# Altium footprint library (Poly)TC364_MainBoard_PCB_V1.1.PcbLib: 27 footprints (part 2 of 2)
Each footprint in its own frame and in the unit in brackets; x right, y up, seen from the top. Pads: shape width x height; smd on the part's side, far side on the other; paste and mask are expansions set on the pad; w line width, h text height; cw(c..) or ccw(c..) is an arc to the next point about the centre after c.
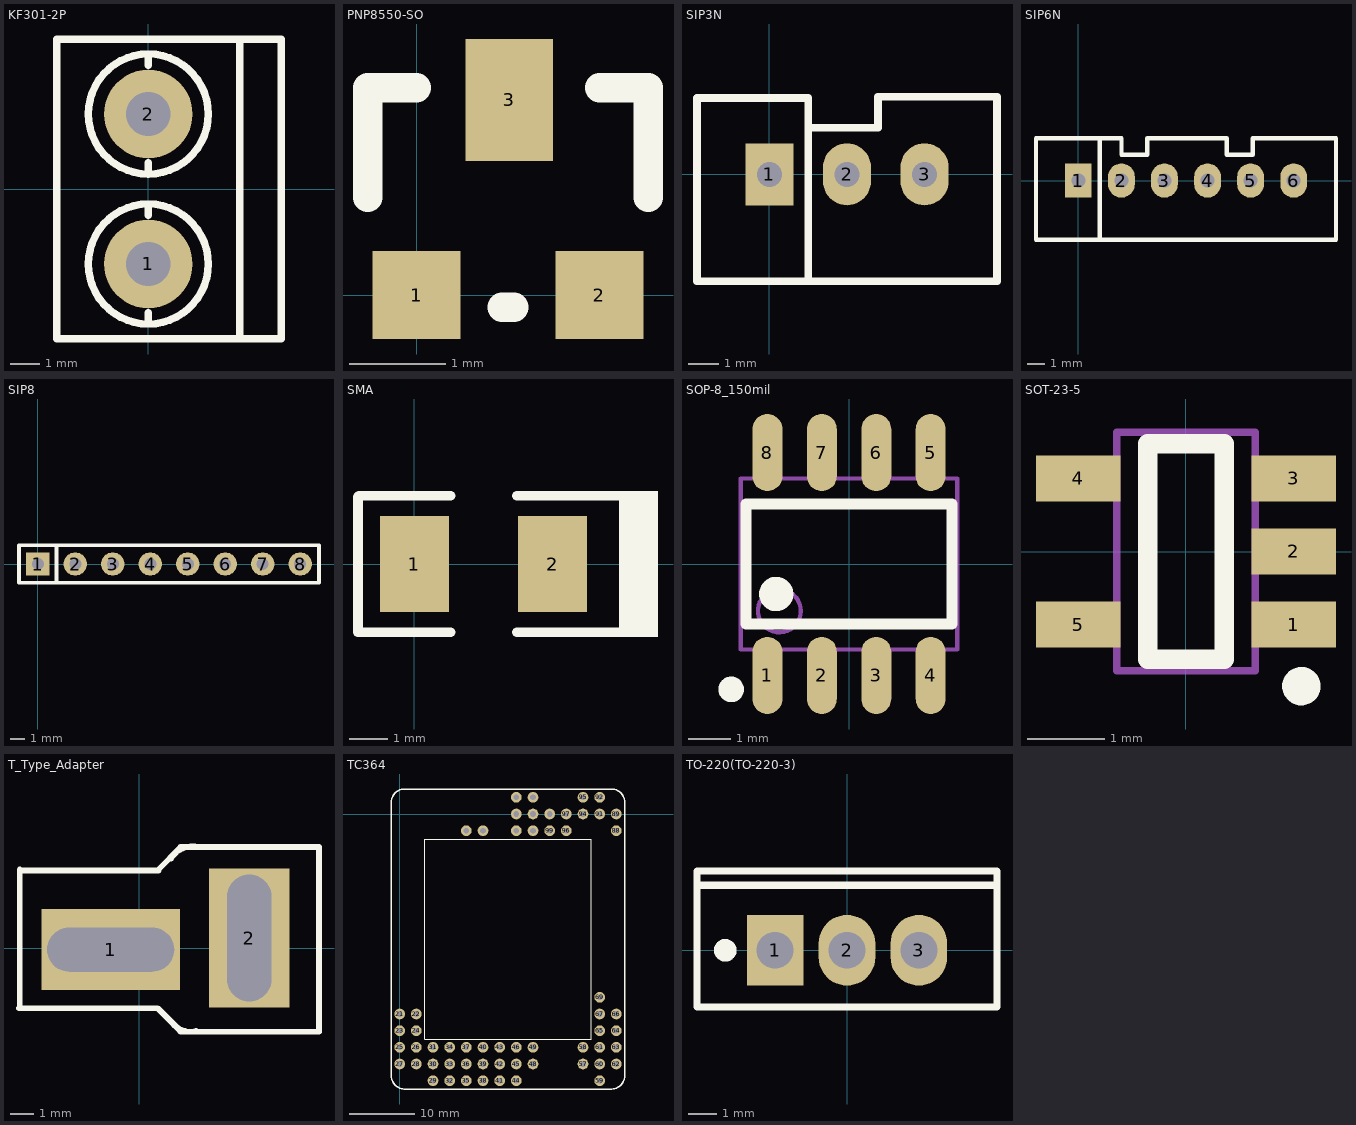
[diagram p1: the footprints below, top view; thin cyan lines are the x and y axes]

## KF301-2P [mm]
height 4.65
pads (2):
  round 3 hole 1.5: 1(0,-2.54) 2(0,2.54)
Top Overlay:
  circle w0.254: c0,2.54 r2.032
  circle w0.254: c0,-2.54 r2.032
  lines w0.254: 0,-4.572 0,-4.191 ; 0,-0.889 0,-0.508 ; 0,0.508 0,0.889 ; 0,4.191 0,4.572 ; 3.1,-5.08 3.1,5.08 ; -3.1,-5.08 -3.1,5.08 4.5,5.08 4.5,-5.08 -3.1,-5.08

## PNP8550-SO [mil]
pads (3):
  rect 36x36 smd: 1(0,0) 2(75,0)
  rect 36x50 smd: 3(38,80)
Top Overlay:
  lines w12: -20,40 -20,85 0,85 ; 35,-5 40,-5 ; 75,85 95,85 95,40
3D body "CircuitWorks-SOT-23.step": height 41.65, standoff -1.65, extent -21.05,-8.21 97.06,90.21

## SIP3N [mil]
pads (3):
  rect 62x80 hole 32: 1(0,0)
  oval 62x80 hole 32: 2(100,0) 3(200,0)
Top Overlay:
  lines w10: 50,60 140,60 140,98.42 ; 140,100 293.43,100 293.43,-137.79 50,-137.79 ; 50,-137.79 50,98.42 -93.43,98.42 -93.43,-137.79 50,-137.79
3D body "XH2.54-3P.STEP": height 276.77, standoff -97.24, extent -99.43,-128.41 297.43,96

## SIP6N [mil]
pads (6):
  rect 62x80 hole 32: 1(0,0)
  oval 62x80 hole 32: 2(100,0) 3(200,0) 4(300,0) 5(400,0) 6(500,0)
Top Overlay:
  lines w10: -98.43,-137.79 -98.43,98.42 100.39,98.42 ; -98.42,-137.79 598.42,-137.79 598.42,98.42 405,98.42 405,60 345,60 345,98.42 160,98.42 160,60 100,60 100,98.42 ; 50,-137.79 50,98.42
3D body "XH2.54-6P.STEP": height 276.77, standoff -97.24, extent -99.43,-128.92 597.43,95.49

## SIP8 [mil]
pads (8):
  rect 62x62 hole 32: 1(0,0)
  round 62 hole 32: 2(100,0) 3(200,0) 4(300,0) 5(400,0) 6(500,0) 7(600,0) 8(700,0)
Top Overlay:
  lines w10: 50,-50 50,50 ; -50,-50 750,-50 750,50 -50,50 -50,-50
3D body "HDR2.54-1P.STEP": height 334.65, standoff -118.11, extent 650,-50 750,50
3D body "HDR2.54-1P.STEP": height 334.65, standoff -118.11, extent 450,-50 550,50
3D body "HDR2.54-1P.STEP": height 334.65, standoff -118.11, extent 550,-50 650,50
3D body "HDR2.54-1P.STEP": height 334.65, standoff -118.11, extent 350,-50 450,50
3D body "HDR2.54-1P.STEP": height 334.65, standoff -118.11, extent 250,-50 350,50
3D body "HDR2.54-1P.STEP": height 334.65, standoff -118.11, extent 150,-50 250,50
3D body "HDR2.54-1P.STEP": height 334.65, standoff -118.11, extent 50,-50 150,50
3D body "HDR2.54-1P.STEP": height 334.65, standoff -118.11, extent -50,-50 50,50

## SMA [mm]
height 1.25
pads (2):
  rect 1.8x2.5 smd: 1(0,0) 2(3.6,0)
Top Overlay:
  region: 6.35,1.905 5.334,1.905 5.334,-1.905 6.35,-1.905
  lines w0.254: -1.473,1.753 -1.473,-1.778 0.94,-1.778 ; -1.448,1.778 0.94,1.778 ; 2.667,-1.778 5.334,-1.778 ; 2.667,1.778 5.334,1.778

## SOP-8_150mil [mm]
height 1.25
pads (8):
  oval 0.7x1.8 smd: 1(-1.905,-2.6) 2(-0.635,-2.6) 3(0.635,-2.6) 4(1.905,-2.6) 5(1.905,2.6) 6(0.635,2.6) 7(-0.635,2.6) 8(-1.905,2.6)
Top Overlay:
  circle w0.3: c-2.75,-2.925 r0.15
  circle w0.4: c-1.7,-0.7 r0.2
  lines w0.254: -2.4,-1.4 2.4,-1.4 2.4,1.4 -2.4,1.4 -2.4,-1.4
Mechanical 13:
  circle w0.1: c-1.625,-1.095 r0.5
  lines w0.1: -2.525,-1.995 2.525,-1.995 2.525,1.995 -2.525,1.995 -2.525,-1.995
3D body "User Library-SOIC-8-150.STEP": height 1.75, standoff 0, extent -2.5,-3.1 2.5,3.1

## SOT-23-5 [mm]
height 1.25
pads (5):
  rect 1.1x0.6 smd: 1(1.4,-0.95) 2(1.4,0) 3(1.4,0.95) 4(-1.4,0.95) 5(-1.4,-0.95)
Top Overlay:
  circle w0.25: c1.5,-1.75 r0.125
  lines w0.254: -0.5,-1.4 -0.5,1.4 0.5,1.4 0.5,-1.4 -0.5,-1.4
Mechanical 13:
  lines w0.1: -0.9,-1.55 0.9,-1.55 0.9,1.55 -0.9,1.55 -0.9,-1.55

## T_Type_Adapter [mm]
pads (2):
  rect 6x3.5 hole 1.905 slot 5.49 at 0 deg: 1(-1.245,-0.051)
  rect 3.5x6 hole 1.905 slot 5.49 at 90 deg: 2(4.755,0.449)
Top Overlay:
  lines w0.254: -5.213,-2.591 0.787,-2.591 1.787,-3.591 ; -5.182,-2.591 -5.182,3.409 ; -5.182,3.378 0.818,3.378 ; 0.803,3.394 1.803,4.394 ; 1.365,3.899 cw(c2.311,3.307) 2.565,4.394 ; 1.422,-3.226 ccw(c2.2,-2.63) 2.454,-3.576 ; 1.772,-3.607 7.772,-3.607 7.772,4.393 ; 1.772,4.394 7.772,4.394

## TC364 [mm]
pads (58):
  round 1.65 hole 0.88: 21(0,-30.48) 22(2.54,-30.48) 23(0,-33.02) 24(2.54,-33.02) 25(0,-35.56) 26(2.54,-35.56) 27(0,-38.1) 28(2.54,-38.1) 30(5.08,-38.1) 31(5.08,-35.56) 33(7.62,-38.1) 34(7.62,-35.56) 36(10.16,-38.1) 37(10.16,-35.56) 39(12.7,-38.1) 40(12.7,-35.56) 42(15.24,-38.1) 43(15.24,-35.56) 45(17.78,-38.1) 46(17.78,-35.56) 48(20.32,-38.1) 49(20.32,-35.56) 57(27.94,-38.1) 58(27.94,-35.56) 60(30.48,-38.1) 61(30.48,-35.56) 62(33.02,-38.1) 63(33.02,-35.56) 64(33.02,-33.02) 65(30.48,-33.02) 66(33.02,-30.48) 67(30.48,-30.48) 69(30.48,-27.94) 88(33.02,-2.54) 89(33.02,0) 91(30.48,0) 94(27.94,0) 96(25.4,-2.54) 97(25.4,0) 99(22.86,-2.54) 100(22.86,0) 102(20.32,-2.54) 103(20.32,0) 105(17.78,-2.54) 106(17.78,0) 111(12.7,-2.54) 114(10.16,-2.54)
  round 1.65 hole 0.88 mask+0.102: 29(5.08,-40.64) 32(7.62,-40.64) 35(10.16,-40.64) 38(12.7,-40.64) 41(15.24,-40.64) 44(17.78,-40.64) 59(30.48,-40.64) 92(30.48,2.54) 95(27.94,2.54) 104(20.32,2.54) 107(17.78,2.54)
Top Overlay:
  lines w0.15: 3.8,-3.81 3.8,-34.29 29.185,-34.29 29.185,-3.9 ; 3.861,-3.81 29.185,-3.81
  lines w0.2: -1.27,-40.132 -1.27,1.81 cw(c0.73,1.81) 0.73,3.81 ; -1.27,-39.91 ccw(c0.73,-39.91) 0.73,-41.91 ; 0.596,3.81 32.29,3.81 cw(c32.29,1.81) 34.29,1.81 34.29,-39.91 cw(c32.29,-39.91) 32.29,-41.91 0.635,-41.91

## TO-220(TO-220-3) [mm]
height 1.25
pads (3):
  rect 2x2.5 hole 1.3: 1(-2.54,0)
  oval 2x2.5 hole 1.3: 2(0,0) 3(2.54,0)
Top Overlay:
  circle w0.4: c-4.3,0 r0.2
  lines w0.254: -5.3,2.3 5.3,2.3 ; -5.3,-2 -5.3,2.8 5.3,2.8 5.3,-2 -5.3,-2
3D body "TO-220-3.STEP": height 19.6, standoff -8.87, extent -5.08,-1.451 5.08,2.9